# Altium integrated library NCP164_.IntLib: 1 symbol
Pins are listed as number, name and electrical type; pins without a type are passive.

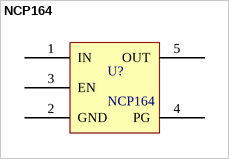
[diagram p0: symbol NCP164]

## NCP164
designator U?
footprint NCP164_2
footprint NCP164_3
pins: 1 IN (power), 2 GND (power), 3 EN, 4 PG, 5 OUT (power)